# Altium schematic symbol library SchottkyDiode.SchLib: 1 symbol
Pins are listed as number, name and electrical type; pins without a type are passive.

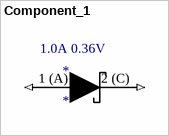
[diagram p0: symbol Component_1]

## Component_1
designator *
pins: 1 (A) (in), 2 (C) (in)
text: 1.0A 0.36V